# Altium footprint library ESP32.PcbLib: 1 footprints
Each footprint in its own frame and in the unit in brackets; x right, y up, seen from the top. Pads: shape width x height; smd on the part's side, far side on the other; paste and mask are expansions set on the pad; w line width, h text height; cw(c..) or ccw(c..) is an arc to the next point about the centre after c.
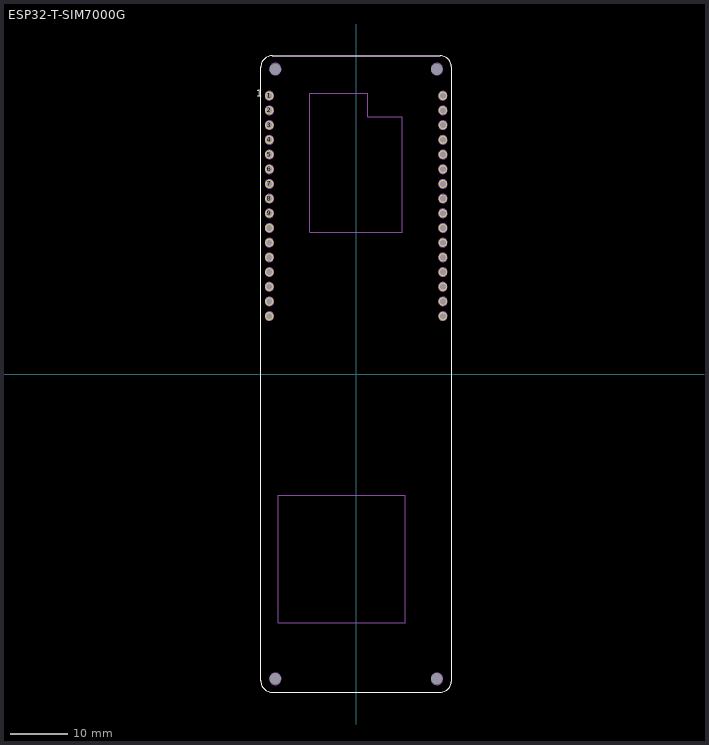
[diagram p0: the footprint, top view; thin cyan lines are the x and y axes]

## ESP32-T-SIM7000G [mm]
pads (36):
  round 1.5 hole 1: 1(-15,48.1) 2(-15,45.56) 3(-15,43.02) 4(-15,40.48) 5(-15,37.94) 6(-15,35.4) 7(-15,32.86) 8(-15,30.32) 9(-15,27.78) 10(-15,25.24) 11(-15,22.7) 12(-15,20.16) 13(-15,17.62) 14(-15,15.08) 15(-15,12.54) 16(-15,10) 17(15,10) 18(15,12.54) 19(15,15.08) 20(15,17.62) 21(15,20.16) 22(15,22.7) 23(15,25.24) 24(15,27.78) 25(15,30.32) 26(15,32.86) 27(15,35.4) 28(15,37.94) 29(15,40.48) 30(15,43.02) 31(15,45.56) 32(15,48.1)
  round 0 hole 2 unplated: M(-13.97,-52.705) M(-13.97,52.705) M(13.97,-52.705) M(13.97,52.705)
Top Overlay:
  lines w0.2: -16.5,-53 ccw(c-14.5,-53) -14.5,-55 14.5,-55 ccw(c14.5,-53) 16.5,-53 16.5,53 ccw(c14.5,53) 14.5,55 -14.5,55 ccw(c-14.5,53) -16.5,53 -16.5,-53
  text "1" at -17.236,47.457 h2
Bottom Overlay:
  text "1" at -13.264,47.457 h2
Top Assembly:
  circle w0.1: c15,48.1 r0.75
  circle w0.1: c15,45.56 r0.75
  circle w0.1: c15,43.02 r0.75
  circle w0.1: c15,40.48 r0.75
  circle w0.1: c15,37.94 r0.75
  circle w0.1: c15,35.4 r0.75
  circle w0.1: c15,32.86 r0.75
  circle w0.1: c15,30.32 r0.75
  circle w0.1: c15,27.78 r0.75
  circle w0.1: c15,25.24 r0.75
  circle w0.1: c15,22.7 r0.75
  circle w0.1: c15,20.16 r0.75
  circle w0.1: c15,17.62 r0.75
  circle w0.1: c15,15.08 r0.75
  circle w0.1: c15,12.54 r0.75
  circle w0.1: c15,10 r0.75
  circle w0.1: c-15,10 r0.75
  circle w0.1: c-15,12.54 r0.75
  circle w0.1: c-15,15.08 r0.75
  circle w0.1: c-15,17.62 r0.75
  circle w0.1: c-15,20.16 r0.75
  circle w0.1: c-15,22.7 r0.75
  circle w0.1: c-15,25.24 r0.75
  circle w0.1: c-15,27.78 r0.75
  circle w0.1: c-15,30.32 r0.75
  circle w0.1: c-15,32.86 r0.75
  circle w0.1: c-15,35.4 r0.75
  circle w0.1: c-15,37.94 r0.75
  circle w0.1: c-15,40.48 r0.75
  circle w0.1: c-15,43.02 r0.75
  circle w0.1: c-15,45.56 r0.75
  circle w0.1: c-15,48.1 r0.75
  circle w0.1: c-13.97,52.705 r1
  circle w0.1: c13.97,52.705 r1
  circle w0.1: c13.97,-52.705 r1
  circle w0.1: c-13.97,-52.705 r1
  lines w0.2: -16.5,-53 ccw(c-14.5,-53) -14.5,-55 14.5,-55 ccw(c14.5,-53) 16.5,-53 16.5,53 ccw(c14.5,53) 14.5,55 -14.5,55 ccw(c-14.5,53) -16.5,53 -16.5,-53 ; -13.5,-43 -13.5,-21 8.5,-21 8.5,-43 -13.5,-43 ; -8,24.5 -8,48.5 2,48.5 2,44.5 8,44.5 8,24.5 -8,24.5
Bottom Assembly (Mech12):
  circle w0.2: c15,48.1 r0.75
  circle w0.2: c15,45.56 r0.75
  circle w0.2: c15,43.02 r0.75
  circle w0.2: c15,40.48 r0.75
  circle w0.2: c15,37.94 r0.75
  circle w0.2: c15,35.4 r0.75
  circle w0.2: c15,32.86 r0.75
  circle w0.2: c15,30.32 r0.75
  circle w0.2: c15,27.78 r0.75
  circle w0.2: c15,25.24 r0.75
  circle w0.2: c15,22.7 r0.75
  circle w0.2: c15,20.16 r0.75
  circle w0.2: c15,17.62 r0.75
  circle w0.2: c15,15.08 r0.75
  circle w0.2: c15,12.54 r0.75
  circle w0.2: c15,10 r0.75
  circle w0.2: c-15,10 r0.75
  circle w0.2: c-15,12.54 r0.75
  circle w0.2: c-15,15.08 r0.75
  circle w0.2: c-15,17.62 r0.75
  circle w0.2: c-15,20.16 r0.75
  circle w0.2: c-15,22.7 r0.75
  circle w0.2: c-15,25.24 r0.75
  circle w0.2: c-15,27.78 r0.75
  circle w0.2: c-15,30.32 r0.75
  circle w0.2: c-15,32.86 r0.75
  circle w0.2: c-15,35.4 r0.75
  circle w0.2: c-15,37.94 r0.75
  circle w0.2: c-15,40.48 r0.75
  circle w0.2: c-15,43.02 r0.75
  circle w0.2: c-15,45.56 r0.75
  circle w0.2: c-15,48.1 r0.75
Top 3D Body:
  lines w0.1: -14.97,-52.705 ccw(c-13.97,-52.705) -13.97,-53.705 ccw(c-13.97,-52.705) -12.97,-52.705 ccw(c-13.97,-52.705) -13.97,-51.705 ccw(c-13.97,-52.705) -14.97,-52.705 ; -14.97,52.705 ccw(c-13.97,52.705) -13.97,51.705 ccw(c-13.97,52.705) -12.97,52.705 ccw(c-13.97,52.705) -13.97,53.705 ccw(c-13.97,52.705) -14.97,52.705 ; 12.97,-52.705 ccw(c13.97,-52.705) 13.97,-53.705 ccw(c13.97,-52.705) 14.97,-52.705 ccw(c13.97,-52.705) 13.97,-51.705 ccw(c13.97,-52.705) 12.97,-52.705 ; 12.97,52.705 ccw(c13.97,52.705) 13.97,51.705 ccw(c13.97,52.705) 14.97,52.705 ccw(c13.97,52.705) 13.97,53.705 ccw(c13.97,52.705) 12.97,52.705
3D body: height 6.8, standoff 4.6, extent -13.5,-43 8.5,-21
3D body: height 7.6, standoff 4.6, extent -8,24.5 8,48.5
3D body: height 4.6, standoff 3, extent -16.5,-55 16.5,55
3D body: height 7.5, standoff -3, extent 14.65,9.65 15.35,10.35
3D body: height 7.5, standoff -3, extent 14.65,12.19 15.35,12.89
3D body: height 7.5, standoff -3, extent 14.65,14.73 15.35,15.43
3D body: height 7.5, standoff -3, extent 14.65,17.27 15.35,17.97
3D body: height 7.5, standoff -3, extent 14.65,19.81 15.35,20.51
3D body: height 7.5, standoff -3, extent 14.65,22.35 15.35,23.05
3D body: height 7.5, standoff -3, extent 14.65,24.89 15.35,25.59
3D body: height 7.5, standoff -3, extent 14.65,27.43 15.35,28.13
3D body: height 7.5, standoff -3, extent 14.65,29.97 15.35,30.67
3D body: height 7.5, standoff -3, extent 14.65,32.51 15.35,33.21
3D body: height 7.5, standoff -3, extent 14.65,35.05 15.35,35.75
3D body: height 7.5, standoff -3, extent 14.65,37.59 15.35,38.29
3D body: height 7.5, standoff -3, extent 14.65,40.13 15.35,40.83
3D body: height 7.5, standoff -3, extent 14.65,42.67 15.35,43.37
3D body: height 7.5, standoff -3, extent 14.65,45.21 15.35,45.91
3D body: height 7.5, standoff -3, extent 14.65,47.75 15.35,48.45
3D body: height 7.5, standoff -3, extent -15.35,9.65 -14.65,10.35
3D body: height 7.5, standoff -3, extent -15.35,12.19 -14.65,12.89
3D body: height 7.5, standoff -3, extent -15.35,14.73 -14.65,15.43
3D body: height 7.5, standoff -3, extent -15.35,17.27 -14.65,17.97
3D body: height 7.5, standoff -3, extent -15.35,19.81 -14.65,20.51
3D body: height 7.5, standoff -3, extent -15.35,22.35 -14.65,23.05
3D body: height 7.5, standoff -3, extent -15.35,24.89 -14.65,25.59
3D body: height 7.5, standoff -3, extent -15.35,27.43 -14.65,28.13
3D body: height 7.5, standoff -3, extent -15.35,29.97 -14.65,30.67
3D body: height 7.5, standoff -3, extent -15.35,32.51 -14.65,33.21
3D body: height 7.5, standoff -3, extent -15.35,35.05 -14.65,35.75
3D body: height 7.5, standoff -3, extent -15.35,37.59 -14.65,38.29
3D body: height 7.5, standoff -3, extent -15.35,40.13 -14.65,40.83
3D body: height 7.5, standoff -3, extent -15.35,42.67 -14.65,43.37
3D body: height 7.5, standoff -3, extent -15.35,45.21 -14.65,45.91
3D body: height 7.5, standoff -3, extent -15.35,47.75 -14.65,48.45
3D body: height 3, standoff 0, extent -16.27,46.83 -13.73,49.37
3D body: height 3, standoff 0, extent -16.27,44.29 -13.73,46.83
3D body: height 3, standoff 0, extent -16.27,41.75 -13.73,44.29
3D body: height 3, standoff 0, extent -16.27,39.21 -13.73,41.75
3D body: height 3, standoff 0, extent -16.27,36.67 -13.73,39.21
3D body: height 3, standoff 0, extent -16.27,34.13 -13.73,36.67
3D body: height 3, standoff 0, extent -16.27,31.59 -13.73,34.13
3D body: height 3, standoff 0, extent -16.27,29.05 -13.73,31.59
3D body: height 3, standoff 0, extent -16.27,26.51 -13.73,29.05
3D body: height 3, standoff 0, extent -16.27,23.97 -13.73,26.51
3D body: height 3, standoff 0, extent -16.27,21.43 -13.73,23.97
3D body: height 3, standoff 0, extent -16.27,18.89 -13.73,21.43
3D body: height 3, standoff 0, extent -16.27,16.35 -13.73,18.89
3D body: height 3, standoff 0, extent -16.27,13.81 -13.73,16.35
3D body: height 3, standoff 0, extent -16.27,11.27 -13.73,13.81
3D body: height 3, standoff 0, extent -16.27,8.73 -13.73,11.27
3D body: height 3, standoff 0, extent 13.73,46.83 16.27,49.37
3D body: height 3, standoff 0, extent 13.73,44.29 16.27,46.83
3D body: height 3, standoff 0, extent 13.73,41.75 16.27,44.29
3D body: height 3, standoff 0, extent 13.73,39.21 16.27,41.75
3D body: height 3, standoff 0, extent 13.73,36.67 16.27,39.21
3D body: height 3, standoff 0, extent 13.73,34.13 16.27,36.67
3D body: height 3, standoff 0, extent 13.73,31.59 16.27,34.13
3D body: height 3, standoff 0, extent 13.73,29.05 16.27,31.59
3D body: height 3, standoff 0, extent 13.73,26.51 16.27,29.05
3D body: height 3, standoff 0, extent 13.73,23.97 16.27,26.51
3D body: height 3, standoff 0, extent 13.73,21.43 16.27,23.97
3D body: height 3, standoff 0, extent 13.73,18.89 16.27,21.43
3D body: height 3, standoff 0, extent 13.73,16.35 16.27,18.89
3D body: height 3, standoff 0, extent 13.73,13.81 16.27,16.35
3D body: height 3, standoff 0, extent 13.73,11.27 16.27,13.81
3D body: height 3, standoff 0, extent 13.73,8.73 16.27,11.27